# EAGLE library part LOGIC,BUFFER,QUAD,TRISTATE (library QuantumOptics)
Quad tristate buffer, e.g. 74xx125
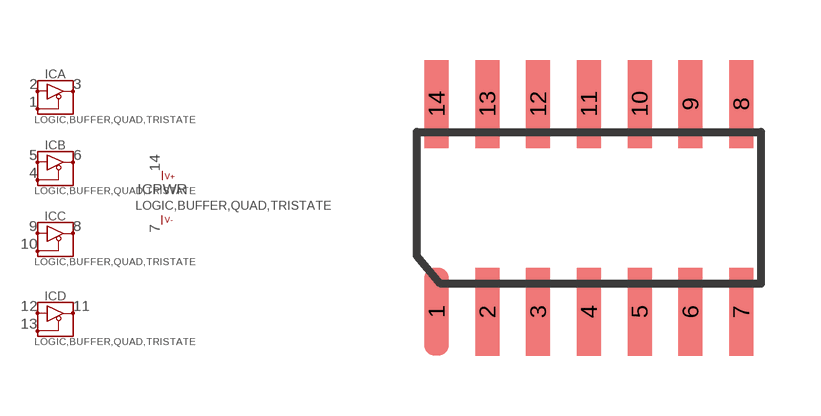
[diagram p149: symbol with the pads of SOIC-14; footprint SOIC-14]

Designator prefix IC; gates A=LOGIC,BUFFER,3STATE,1GATE B=LOGIC,BUFFER,3STATE,1GATE C=LOGIC,BUFFER,3STATE,1GATE D=LOGIC,BUFFER,3STATE,1GATE PWR=PWR+-

## LOGIC,BUFFER,QUAD,TRISTATE-SOIC14  [SOIC-14]
1  A:OE  in
2  A:IN  in
3  A:OUT  out
4  B:OE  in
5  B:IN  in
6  B:OUT  out
7  PWR:V-
8  C:OUT  out
9  C:IN  in
10  C:OE  in
11  D:OUT  out
12  D:IN  in
13  D:OE  in
14  PWR:V++

## Footprint SOIC-14 (pad centres in mm)
Small Outline Package 14
smd 0.6 x 2.2: 1 -3.81,-2.6; 2 -2.54,-2.6; 3 -1.27,-2.6; 4 0,-2.6; 5 1.27,-2.6; 6 2.54,-2.6; 7 3.81,-2.6; 8 3.81,2.6; 9 2.54,2.6; 10 1.27,2.6; 11 0,2.6; 12 -1.27,2.6; 13 -2.54,2.6; 14 -3.81,2.6